# Altium schematic symbol library STM32.SCHLIB: 33 symbols
Pins are listed as number, name and electrical type; pins without a type are passive.

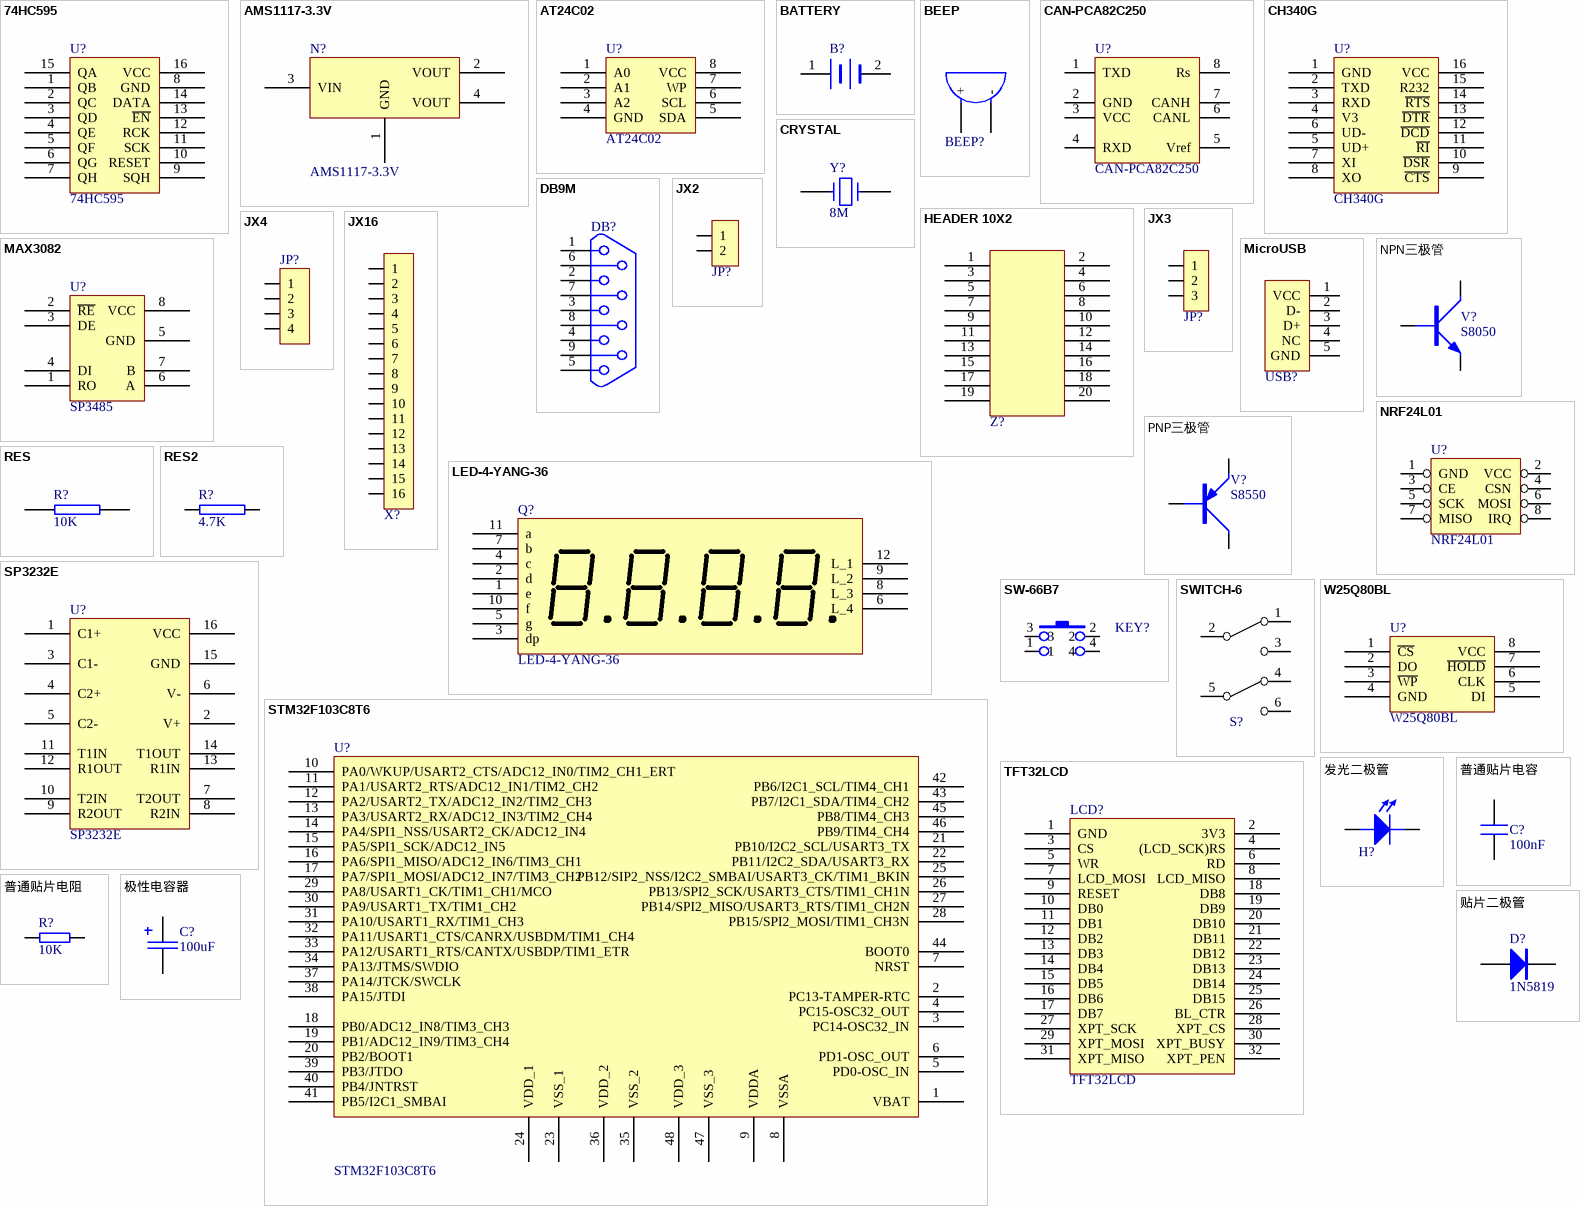
[diagram p0: symbols 74HC595 to 贴片二极管]

## 74HC595
designator U?
串入并出移位寄存器
footprint SO-16
pins: 1 QB, 2 QC, 3 QD, 4 QE, 5 QF, 6 QG, 7 QH, 8 GND, 9 SQH, 10 RESET, 11 SCK, 12 RCK, 13 ~{EN}, 14 DATA, 15 QA, 16 VCC

## AMS1117-3.3V
designator N?
footprint SOT223 (AMS1117-3.3V)
pins: 1 GND, 2 VOUT, 3 VIN, 4 VOUT

## AT24C02
designator U?
footprint SO-8
pins: 1 A0, 2 A1, 3 A2, 4 GND, 5 SDA, 6 SCL, 7 WP, 8 VCC

## BATTERY
designator B?  (value not drawn)
footprint CR1220
pins: 1 +, 2 -

## BEEP
designator BEEP?  (value not drawn)
footprint SOT12-7.6 (有源蜂鸣器外径12间距7.6mm)
pins: 1 +, 2 -

## CAN-PCA82C250
designator U?
footprint SO-8
pins: 1 TXD, 2 GND, 3 VCC, 4 RXD, 5 Vref, 6 CANL, 7 CANH, 8 Rs

## CH340G
designator U?
footprint SOIC16 (SOIC16-39MM)
pins: 1 GND, 2 TXD, 3 RXD, 4 V3, 5 UD+, 6 UD-, 7 XI, 8 XO, 9 ~{CTS}, 10 ~{DSR}, 11 ~{RI}, 12 ~{DCD}, 13 ~{DTR}, 14 ~{RTS}, 15 R232, 16 VCC

## CRYSTAL
designator Y?, comment 8M
Crystal
footprint JZ-AX
pins: 1, 2

## DB9M
designator DB?  (value not drawn)
母头
footprint DB9-M (母头)
pins: 1, 2, 3, 4, 5, 6, 7, 8, 9

## HEADER 10X2
designator Z?  (value not drawn)
footprint JTAG (JTAG-20PIN)
pins: 1, 2, 3, 4, 5, 6, 7, 8, 9, 10, 11, 12, 13, 14, 15, 16, 17, 18, 19, 20

## JX2
designator JP?  (value not drawn)
Connector
footprint SIP2
pins: 1, 2

## JX3
designator JP?  (value not drawn)
Connector
footprint SIP3
pins: 1, 2, 3

## JX4
designator JP?  (value not drawn)
Connector
footprint SIP4
pins: 1, 2, 3, 4

## JX16
designator X?  (value not drawn)
footprint SIP16
pins: 1, 2, 3, 4, 5, 6, 7, 8, 9, 10, 11, 12, 13, 14, 15, 16

## LED-4-YANG-36
designator Q?
footprint LED0.36-4 (Footprint not found)
pins: 1 e, 2 d, 3 dp, 4 c, 5 g, 6 L_4, 7 b, 8 L_3, 9 L_2, 10 f, 11 a, 12 L_1

## MAX3082
designator U?, comment SP3485
footprint SO-8
pins: 1 RO, 2 ~{RE}, 3 DE, 4 DI, 5 GND, 6 A, 7 B, 8 VCC

## MicroUSB
designator USB?  (value not drawn)
母头
footprint MicroUSB1 (MircroUSB母头)
pins: 1 VCC, 2 D-, 3 D+, 4 NC, 5 GND

## NPN三极管
designator V?, comment S8050
V
footprint SOT23-C1
pins: B, C, E

## NRF24L01
designator U?
footprint NRF24L01
pins: 1 GND, 2 VCC, 3 CE, 4 CSN, 5 SCK, 6 MOSI, 7 MISO, 8 IRQ

## PNP三极管
designator V?, comment S8550
V
footprint SOT23-C1
pins: B, C, E

## RES
designator R?, comment 10K
footprint R0805
pins: 1, 2

## RES2
designator R?, comment 4.7K
footprint R0805
pins: 1, 2

## SP3232E
designator U?
SP3232EEN-L/TR;SOIC-39MM
footprint SOIC16 (SOIC16-39MM)
pins: 1 C1+, 2 V+, 3 C1-, 4 C2+, 5 C2-, 6 V-, 7 T2OUT, 8 R2IN, 9 R2OUT, 10 T2IN, 11 T1IN, 12 R1OUT, 13 R1IN, 14 T1OUT, 15 GND, 16 VCC

## STM32F103C8T6
designator U?
footprint LQFP48 (LQFP48-7×7mm-STM32F051C8T6)
pins: 1 VBAT, 2 PC13-TAMPER-RTC, 3 PC14-OSC32_IN, 4 PC15-OSC32_OUT, 5 PD0-OSC_IN, 6 PD1-OSC_OUT, 7 NRST, 8 VSSA, 9 VDDA, 10 PA0/WKUP/USART2_CTS/ADC12_IN0/TIM2_CH1_ERT, 11 PA1/USART2_RTS/ADC12_IN1/TIM2_CH2, 12 PA2/USART2_TX/ADC12_IN2/TIM2_CH3, 13 PA3/USART2_RX/ADC12_IN3/TIM2_CH4, 14 PA4/SPI1_NSS/USART2_CK/ADC12_IN4, 15 PA5/SPI1_SCK/ADC12_IN5, 16 PA6/SPI1_MISO/ADC12_IN6/TIM3_CH1, 17 PA7/SPI1_MOSI/ADC12_IN7/TIM3_CH2, 18 PB0/ADC12_IN8/TIM3_CH3, 19 PB1/ADC12_IN9/TIM3_CH4, 20 PB2/BOOT1, 21 PB10/I2C2_SCL/USART3_TX, 22 PB11/I2C2_SDA/USART3_RX, 23 VSS_1, 24 VDD_1, 25 PB12/SIP2_NSS/I2C2_SMBAI/USART3_CK/TIM1_BKIN, 26 PB13/SPI2_SCK/USART3_CTS/TIM1_CH1N, 27 PB14/SPI2_MISO/USART3_RTS/TIM1_CH2N, 28 PB15/SPI2_MOSI/TIM1_CH3N, 29 PA8/USART1_CK/TIM1_CH1/MCO, 30 PA9/USART1_TX/TIM1_CH2, 31 PA10/USART1_RX/TIM1_CH3, 32 PA11/USART1_CTS/CANRX/USBDM/TIM1_CH4, 33 PA12/USART1_RTS/CANTX/USBDP/TIM1_ETR, 34 PA13/JTMS/SWDIO, 35 VSS_2, 36 VDD_2, 37 PA14/JTCK/SWCLK, 38 PA15/JTDI, 39 PB3/JTDO, 40 PB4/JNTRST, 41 PB5/I2C1_SMBAI, 42 PB6/I2C1_SCL/TIM4_CH1, 43 PB7/I2C1_SDA/TIM4_CH2, 44 BOOT0, 45 PB8/TIM4_CH3, 46 PB9/TIM4_CH4, 47 VSS_3, 48 VDD_3

## SW-66B7
designator KEY?  (value not drawn)
footprint SW-66 (6×6轻触开关)
pins: 1, 2, 3, 4

## SWITCH-6
designator S?  (value not drawn)
footprint SW-AJ
pins: 1, 2, 3, 4, 5, 6

## TFT32LCD
designator LCD?
footprint HEAD16×2
pins: 1 GND, 2 3V3, 3 CS, 4 (LCD_SCK)RS, 5 WR, 6 RD, 7 LCD_MOSI, 8 LCD_MISO, 9 RESET, 10 DB0, 11 DB1, 12 DB2, 13 DB3, 14 DB4, 15 DB5, 16 DB6, 17 DB7, 18 DB8, 19 DB9, 20 DB10, 21 DB11, 22 DB12, 23 DB13, 24 DB14, 25 DB15, 26 BL_CTR, 27 XPT_SCK, 28 XPT_CS, 29 XPT_MOSI, 30 XPT_BUSY, 31 XPT_MISO, 32 XPT_PEN

## W25Q80BL
designator U?
footprint W25Q-SO8
pins: 1 ~{CS}, 2 DO, 3 ~{WP}, 4 GND, 5 DI, 6 CLK, 7 ~{HOLD}, 8 VCC

## 发光二极管
designator H?  (value not drawn)
footprint LED1206
pins: 1 A, 2 K

## 普通贴片电容
designator C?, comment 100nF
Capacitor
footprint C0805 (Footprint not found)
pins: 1, 2

## 普通贴片电阻
designator R?, comment 10K
pins: 1, 2

## 极性电容器
designator C?, comment 100uF
TD_Model: *
footprint CAP5*5_4
pins: 1, 2
2 alternate drawings of the same symbol

## 贴片二极管
designator D?, comment 1N5819
Diode 1N series
footprint 1N4148-T
pins: 1 A, 2 K
2 alternate drawings of the same symbol